# Altium schematic symbol library SamacSys.SchLib: 6 symbols
Pins are listed as number, name and electrical type; pins without a type are passive.

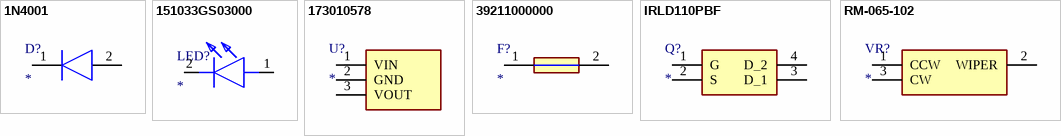
[diagram p0: symbols 1N4001 to RM-065-102]

## 1N4001
designator D?
Diode; Manufacturer_Name: Diotec Electronics; Manufacturer_Part_Number: 1N4001; Datasheet Link: https://www.arrow.com/en/products/1n4001/diotec-semiconductor-ag; Arrow Part Number: 1N4001; Arrow Price/Stock: https://www.arrow.com/en/products/1n4001/diotec-semiconductor-ag
footprint DIOAD1530W84L490D260
pins: 1 K, 2 A

## 151033GS03000
designator LED?
LED; Manufacturer_Name: Wurth Elektronik; Manufacturer_Part_Number: 151033GS03000; Description: Wurth Elektronik 151033GS03000; Datasheet Link: https://www.mouser.com/datasheet/2/445/151033GS03000-1715304.pdf; Height: 5.55mm; Mouser Part Number: 710-151033GS03000; Mouser Price/Stock: https://www.mouser.com/Search/Refine.aspx?Keyword=710-151033GS03000
footprint 151033GS03000
pins: 1 A, 2 K

## 173010578
designator U?
Undefined or Miscellaneous; Manufacturer_Name: Wurth Elektronik; Manufacturer_Part_Number: 173010578; Datasheet Link: https://componentsearchengine.com//173010578.pdf; Height: 8.5mm; Mouser2 Part Number: 710-173010578; Mouser2 Price/Stock: https://www.mouser.com/Search/Refine.aspx?Keyword=710-173010578
footprint 173010578
pins: 1 VIN, 2 GND, 3 VOUT

## 39211000000
designator F?
Fuse; Manufacturer_Name: LITTELFUSE; Manufacturer_Part_Number: 39211000000; Datasheet Link: https://datasheet.lcsc.com/szlcsc/Littelfuse-39211000000_C99566.pdf; Height: 8mm; Mouser Part Number: 576-3921100000; Mouser Price/Stock: https://www.mouser.co.uk/ProductDetail/Littelfuse/39211000000?qs=x71drwq5GondAmkqFlpf6Q%3D%3D; Arrow Part Number: 39211000000; Arrow Price/Stock: https://www.arrow.com/en/products/39211000000/littelfuse
footprint 39211000000
pins: 1, 2

## IRLD110PBF
designator Q?
MOSFET (N-Channel); Manufacturer_Name: Vishay; Manufacturer_Part_Number: IRLD110PBF; Datasheet Link: http://uk.rs-online.com/web/p/products/0301338P; Height: 3.37mm; Mouser Part Number: 844-IRLD110PBF; Mouser Price/Stock: https://www.mouser.co.uk/ProductDetail/Vishay-Siliconix/IRLD110PBF/?qs=cvaI6ThkwxutctgzXpBGHg%3D%3D; Arrow Part Number: IRLD110PBF; Arrow Price/Stock: https://www.arrow.com/en/products/irld110pbf/vishay
footprint DIP920W60P254L490H337Q4N
pins: 1 G, 2 S, 3 D_1, 4 D_2

## RM-065-102
designator VR?
Variable Resistor; Manufacturer_Name: Marutsu; Manufacturer_Part_Number: RM-065-102; Datasheet Link: https://www.marutsu.co.jp/contents/shop/marutsu/datasheet/RM-065.pdf; Height: 7.5mm
footprint RM065102
pins: 1 CCW, 2 WIPER, 3 CW